# Altium footprint library WR-FAST.PcbLib: 56 footprints (part 4 of 4)
Each footprint in its own frame and in the unit in brackets; x right, y up, seen from the top. Pads: shape width x height; smd on the part's side, far side on the other; paste and mask are expansions set on the pad; w line width, h text height; cw(c..) or ccw(c..) is an arc to the next point about the centre after c.
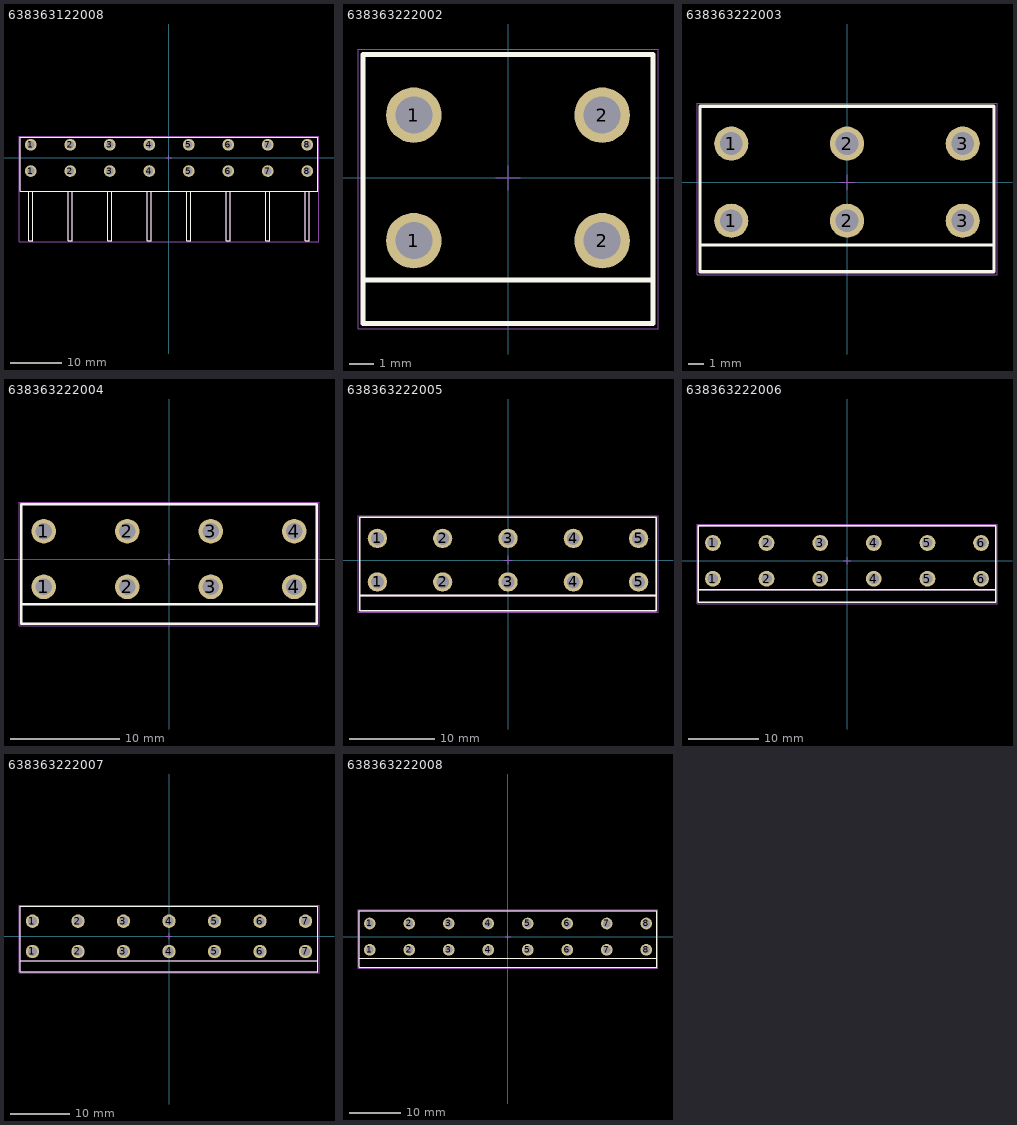
[diagram p3: the footprints below, top view; thin cyan lines are the x and y axes]

## 638363122008 [mm] "7.62mm THT Male Right Angled Header Blade 6.3, 8p"
height 11
pads (16):
  round 2.25 hole 1.5: 1(-26.67,-2.54) 1(-26.67,2.54) 2(-19.05,-2.54) 2(-19.05,2.54) 3(-11.43,-2.54) 3(-11.43,2.54) 4(-3.81,-2.54) 4(-3.81,2.54) 5(3.81,-2.54) 5(3.81,2.54) 6(11.43,-2.54) 6(11.43,2.54) 7(19.05,-2.54) 7(19.05,2.54) 8(26.67,-2.54) 8(26.67,2.54)
Top Overlay:
  lines w0.2: -27.07,-6.45 -27.07,-16 -26.27,-16 -26.27,-6.45 ; -19.45,-6.45 -19.45,-16 -18.65,-16 -18.65,-6.45 ; -11.83,-6.45 -11.83,-16 -11.03,-16 -11.03,-6.45 ; -4.21,-6.45 -4.21,-16 -3.41,-16 -3.41,-6.45 ; 3.41,-6.45 3.41,-16 4.21,-16 4.21,-6.45 ; 11.03,-6.45 11.03,-16 11.83,-16 11.83,-6.45 ; 18.65,-6.45 18.65,-16 19.45,-16 19.45,-6.45 ; 26.27,-6.45 26.27,-16 27.07,-16 27.07,-6.45 ; -28.73,-6.45 -28.73,4 28.73,4 28.73,-6.45 -28.73,-6.45
Top Designator:
  text ".Designator" at -7.498,-0.5 h1.5
Top Component Outline:
  lines w0.1: -27.07,-6.45 -27.07,-16 -26.27,-16 -26.27,-6.45 ; -19.45,-6.45 -19.45,-16 -18.65,-16 -18.65,-6.45 ; -11.83,-6.45 -11.83,-16 -11.03,-16 -11.03,-6.45 ; -4.21,-6.45 -4.21,-16 -3.41,-16 -3.41,-6.45 ; 3.41,-6.45 3.41,-16 4.21,-16 4.21,-6.45 ; 11.03,-6.45 11.03,-16 11.83,-16 11.83,-6.45 ; 18.65,-6.45 18.65,-16 19.45,-16 19.45,-6.45 ; 26.27,-6.45 26.27,-16 27.07,-16 27.07,-6.45 ; -28.73,-6.45 28.73,-6.45 28.73,4 -28.73,4 -28.73,-6.45
Top Courtyard:
  lines w0.05: -0.5,0 0.5,0 ; 0,-0.5 0,0.5 ; -28.93,-16.2 -28.93,4.2 28.93,4.2 28.93,-16.2 -28.93,-16.2
3D body "638363122008.stp": height 11.1, standoff -3.9, extent -28.73,-16 28.73,4

## 638363222002 [mm] "7.62mm THT Male Vertical Header Blade 6.3, 2p"
height 21
pads (4):
  round 2.25 hole 1.5: 1(-3.81,-2.54) 1(-3.81,2.54) 2(3.81,-2.54) 2(3.81,2.54)
Top Overlay:
  lines w0.2: -5.87,-4.13 5.87,-4.13 ; -5.87,-5.9 -5.87,5 5.87,5 5.87,-5.9 -5.87,-5.9
Top Designator:
  text ".Designator" at -7.498,-0.5 h1.5
Top Component Outline:
  lines w0.1: -5.87,-4.13 5.87,-4.13 ; -5.87,-5.9 5.87,-5.9 5.87,5 -5.87,5 -5.87,-5.9
Top Courtyard:
  lines w0.05: -0.5,0 0.5,0 ; 0,-0.5 0,0.5 ; -6.07,-6.1 6.07,-6.1 6.07,5.2 -6.07,5.2 -6.07,-6.1
3D body "638363222002.stp": height 21.1, standoff -3.9, extent -5.87,-6.1 5.87,4.8

## 638363222003 [mm] "7.62mm THT Male Vertical Header Blade 6.3, 3p"
height 21
pads (6):
  round 2.25 hole 1.5: 1(-7.62,-2.54) 1(-7.62,2.54) 2(0,-2.54) 2(0,2.54) 3(7.62,-2.54) 3(7.62,2.54)
Top Overlay:
  lines w0.2: -9.68,-4.13 9.68,-4.13 ; -9.68,-5.9 9.68,-5.9 9.68,5 -9.68,5 -9.68,-5.9
Top Designator:
  text ".Designator" at -7.498,-0.5 h1.5
Top Component Outline:
  lines w0.1: -9.68,-4.13 9.68,-4.13 ; -9.68,-5.9 -9.68,5 9.68,5 9.68,-5.9 -9.68,-5.9
Top Courtyard:
  lines w0.05: -0.5,0 0.5,0 ; 0,-0.5 0,0.5 ; -9.88,-6.1 -9.88,5.2 9.88,5.2 9.88,-6.1 -9.88,-6.1
3D body "638363222003.stp": height 21.1, standoff -3.9, extent -9.68,-6.1 9.68,4.8

## 638363222004 [mm] "7.62mm THT Male Vertical Header Blade 6.3, 4p"
height 21
pads (8):
  round 2.25 hole 1.5: 1(-11.43,-2.54) 1(-11.43,2.54) 2(-3.81,-2.54) 2(-3.81,2.54) 3(3.81,-2.54) 3(3.81,2.54) 4(11.43,-2.54) 4(11.43,2.54)
Top Overlay:
  lines w0.2: -13.49,-4.13 13.49,-4.13 ; -13.49,-5.9 -13.49,5 13.49,5 13.49,-5.9 -13.49,-5.9
Top Designator:
  text ".Designator" at -7.498,-0.5 h1.5
Top Component Outline:
  lines w0.1: -13.49,-4.13 13.49,-4.13 ; -13.49,-5.9 13.49,-5.9 13.49,5 -13.49,5 -13.49,-5.9
Top Courtyard:
  lines w0.05: -0.5,0 0.5,0 ; 0,-0.5 0,0.5 ; -13.69,-6.1 13.69,-6.1 13.69,5.2 -13.69,5.2 -13.69,-6.1
3D body "638363222004.stp": height 21.1, standoff -3.9, extent -13.49,-6.1 13.49,4.8

## 638363222005 [mm] "7.62mm THT Male Vertical Header Blade 6.3, 5p"
height 21
pads (10):
  round 2.25 hole 1.5: 1(-15.24,-2.54) 1(-15.24,2.54) 2(-7.62,-2.54) 2(-7.62,2.54) 3(0,-2.54) 3(0,2.54) 4(7.62,-2.54) 4(7.62,2.54) 5(15.24,-2.54) 5(15.24,2.54)
Top Overlay:
  lines w0.2: -17.3,-4.13 17.3,-4.13 ; -17.3,-5.9 -17.3,5 17.3,5 17.3,-5.9 -17.3,-5.9
Top Designator:
  text ".Designator" at -7.498,-0.5 h1.5
Top Component Outline:
  lines w0.1: -17.3,-4.13 17.3,-4.13 ; -17.3,-5.9 17.3,-5.9 17.3,5 -17.3,5 -17.3,-5.9
Top Courtyard:
  lines w0.05: -0.5,0 0.5,0 ; 0,-0.5 0,0.5 ; -17.5,-6.1 17.5,-6.1 17.5,5.2 -17.5,5.2 -17.5,-6.1
3D body "638363222005.stp": height 21.1, standoff -3.9, extent -17.3,-6.1 17.3,4.8

## 638363222006 [mm] "7.62mm THT Male Vertical Header Blade 6.3, 6p"
height 21
pads (12):
  round 2.25 hole 1.5: 1(-19.05,-2.54) 1(-19.05,2.54) 2(-11.43,-2.54) 2(-11.43,2.54) 3(-3.81,-2.54) 3(-3.81,2.54) 4(3.81,-2.54) 4(3.81,2.54) 5(11.43,-2.54) 5(11.43,2.54) 6(19.05,-2.54) 6(19.05,2.54)
Top Overlay:
  lines w0.2: -21.11,-4.13 21.11,-4.13 ; -21.11,-5.9 21.11,-5.9 21.11,5 -21.11,5 -21.11,-5.9
Top Designator:
  text ".Designator" at -7.498,-0.5 h1.5
Top Component Outline:
  lines w0.1: -21.11,-4.13 21.11,-4.13 ; -21.11,-5.9 -21.11,5 21.11,5 21.11,-5.9 -21.11,-5.9
Top Courtyard:
  lines w0.05: -0.5,0 0.5,0 ; 0,-0.5 0,0.5 ; -21.31,-6.1 -21.31,5.2 21.31,5.2 21.31,-6.1 -21.31,-6.1
3D body "638363222006.stp": height 21.1, standoff -3.9, extent -21.11,-6.1 21.11,4.8

## 638363222007 [mm] "7.62mm THT Male Vertical Header Blade 6.3, 7p"
height 21
pads (14):
  round 2.25 hole 1.5: 1(-22.86,-2.54) 1(-22.86,2.54) 2(-15.24,-2.54) 2(-15.24,2.54) 3(-7.62,-2.54) 3(-7.62,2.54) 4(0,-2.54) 4(0,2.54) 5(7.62,-2.54) 5(7.62,2.54) 6(15.24,-2.54) 6(15.24,2.54) 7(22.86,-2.54) 7(22.86,2.54)
Top Overlay:
  lines w0.2: -24.92,-4.13 24.92,-4.13 ; -24.92,-5.9 -24.92,5 24.92,5 24.92,-5.9 -24.92,-5.9
Top Designator:
  text ".Designator" at -7.498,-0.5 h1.5
Top Component Outline:
  lines w0.1: -24.92,-4.13 24.92,-4.13 ; -24.92,-5.9 24.92,-5.9 24.92,5 -24.92,5 -24.92,-5.9
Top Courtyard:
  lines w0.05: -0.5,0 0.5,0 ; 0,-0.5 0,0.5 ; -25.12,-6.1 25.12,-6.1 25.12,5.2 -25.12,5.2 -25.12,-6.1
3D body "638363222007.stp": height 21.1, standoff -3.9, extent -24.92,-6.1 24.92,4.8

## 638363222008 [mm] "7.62mm THT Male Vertical Header Blade 6.3, 8p"
height 21
pads (16):
  round 2.25 hole 1.5: 1(-26.67,-2.54) 1(-26.67,2.54) 2(-19.05,-2.54) 2(-19.05,2.54) 3(-11.43,-2.54) 3(-11.43,2.54) 4(-3.81,-2.54) 4(-3.81,2.54) 5(3.81,-2.54) 5(3.81,2.54) 6(11.43,-2.54) 6(11.43,2.54) 7(19.05,-2.54) 7(19.05,2.54) 8(26.67,-2.54) 8(26.67,2.54)
Top Overlay:
  lines w0.2: -28.73,-4.13 28.73,-4.13 ; -28.73,-5.9 -28.73,5 28.73,5 28.73,-5.9 -28.73,-5.9
Top Designator:
  text ".Designator" at -7.498,-0.5 h1.5
Top Component Outline:
  lines w0.1: -28.73,-4.13 28.73,-4.13 ; -28.73,-5.9 28.73,-5.9 28.73,5 -28.73,5 -28.73,-5.9
Top Courtyard:
  lines w0.05: -0.5,0 0.5,0 ; 0,-0.5 0,0.5 ; -28.93,-6.1 28.93,-6.1 28.93,5.2 -28.93,5.2 -28.93,-6.1
3D body "638363222008.stp": height 21.1, standoff -3.9, extent -28.73,-6.1 28.73,4.8